# EAGLE library part HMC5843 (library OldModernDeviceBackup)
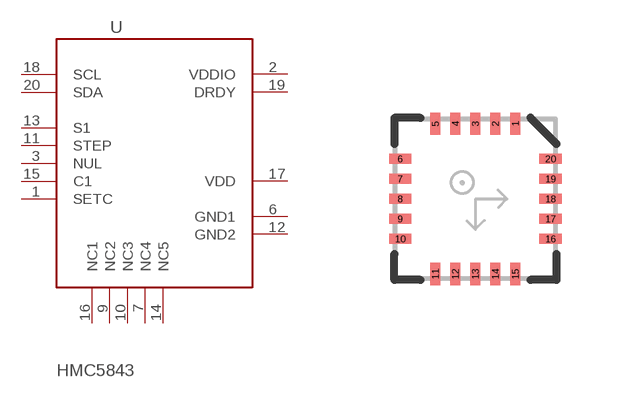
[diagram p24: symbol with the pads of LPCC20; footprint LPCC20]

Designator prefix U

## HMC5843SMD, HMC5843HMC5883SMD  [LPCC20]
1  SETC
2  VDDIO
3  NUL  nc
6  GND1
7  NC4
9  NC2
10  NC3
11  STEP
12  GND2
13  S1
14  NC5
15  C1
16  NC1
17  VDD
18  SCL
19  DRDY
20  SDA

## Footprint LPCC20 (pad centres in mm)
smd 0.25 x 0.56: 1 1,1.88; 2 0.5,1.88; 3 0,1.88; 4 -0.5,1.88; 5 -1,1.88; 11 -1,-1.88; 12 -0.5,-1.88; 13 0,-1.88; 14 0.5,-1.88; 15 1,-1.88
smd 0.56 x 0.25: 6 -1.88,1; 7 -1.88,0.5; 8 -1.88,0; 9 -1.88,-0.5; 10 -1.88,-1; 16 1.88,-1; 17 1.88,-0.5; 18 1.88,0; 19 1.88,0.5; 20 1.88,1